# EAGLE library part CDCE18005 (library NewSDR)
TI Five/Ten Output Clock Generator/Buffer
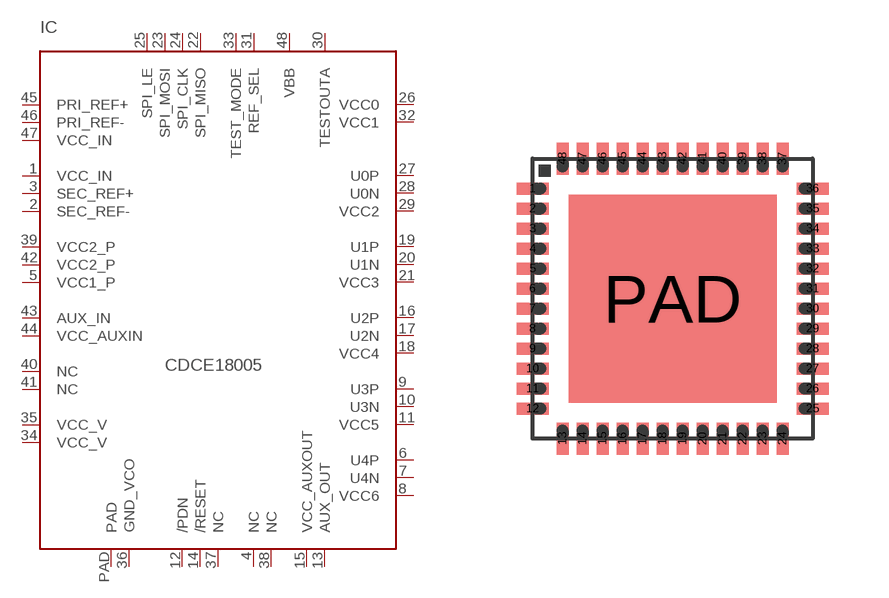
[diagram p125: symbol with the pads of QFN48; footprint QFN48]

Designator prefix IC

## CDCE18005  [QFN48]
1  VCC_IN  pwr
2  SEC_REF-  in
3  SEC_REF+  in
4  NC  nc
5  VCC1_P  pwr
6  U4P  out
7  U4N  out
8  VCC6  pwr
9  U3P  out
10  U3N  out
11  VCC5  pwr
12  /PDN  in
13  AUX_OUT  out
14  /RESET  in
15  VCC_AUXOUT  pwr
16  U2P  out
17  U2N  out
18  VCC4  pwr
19  U1P  out
20  U1N  out
21  VCC3  pwr
22  SPI_MISO  out
23  SPI_MOSI  in
24  SPI_CLK  in
25  SPI_LE  in
26  VCC0  pwr
27  U0P  out
28  U0N  out
29  VCC2  pwr
30  TESTOUTA  out
31  REF_SEL  in
32  VCC1  pwr
33  TEST_MODE  in
34  VCC_V  pwr
35  VCC_V  pwr
36  GND_VCO  pwr
37  NC  nc
38  NC  nc
39  VCC2_P  pwr
40  NC  nc
41  NC  nc
42  VCC2_P  pwr
43  AUX_IN  in
44  VCC_AUXIN  in
45  PRI_REF+  in
46  PRI_REF-  in
47  VCC_IN  pwr
48  VBB  pwr
PAD  PAD  pwr

## Footprint QFN48 (pad centres in mm)
48-pin QFN
smd 0.8 x 0.3: 1 -3.5,2.75; 2 -3.5,2.25; 3 -3.5,1.75; 4 -3.5,1.25; 5 -3.5,0.75; 6 -3.5,0.25; 7 -3.5,-0.25; 8 -3.5,-0.75; 9 -3.5,-1.25; 10 -3.5,-1.75; 11 -3.5,-2.25; 12 -3.5,-2.75; 25 3.5,-2.75; 26 3.5,-2.25; 27 3.5,-1.75; 28 3.5,-1.25; 29 3.5,-0.75; 30 3.5,-0.25; 31 3.5,0.25; 32 3.5,0.75; 33 3.5,1.25; 34 3.5,1.75; 35 3.5,2.25; 36 3.5,2.75
smd 0.3 x 0.8: 13 -2.75,-3.5; 14 -2.25,-3.5; 15 -1.75,-3.5; 16 -1.25,-3.5; 17 -0.75,-3.5; 18 -0.25,-3.5; 19 0.25,-3.5; 20 0.75,-3.5; 21 1.25,-3.5; 22 1.75,-3.5; 23 2.25,-3.5; 24 2.75,-3.5; 37 2.75,3.5; 38 2.25,3.5; 39 1.75,3.5; 40 1.25,3.5; 41 0.75,3.5; 42 0.25,3.5; 43 -0.25,3.5; 44 -0.75,3.5; 45 -1.25,3.5; 46 -1.75,3.5; 47 -2.25,3.5; 48 -2.75,3.5
smd 5.2 x 5.2: PAD 0,0